# Altium schematic symbol library dcdc_ldo_ref.schlib: 50 symbols
Pins are listed as number, name and electrical type; pins without a type are passive.

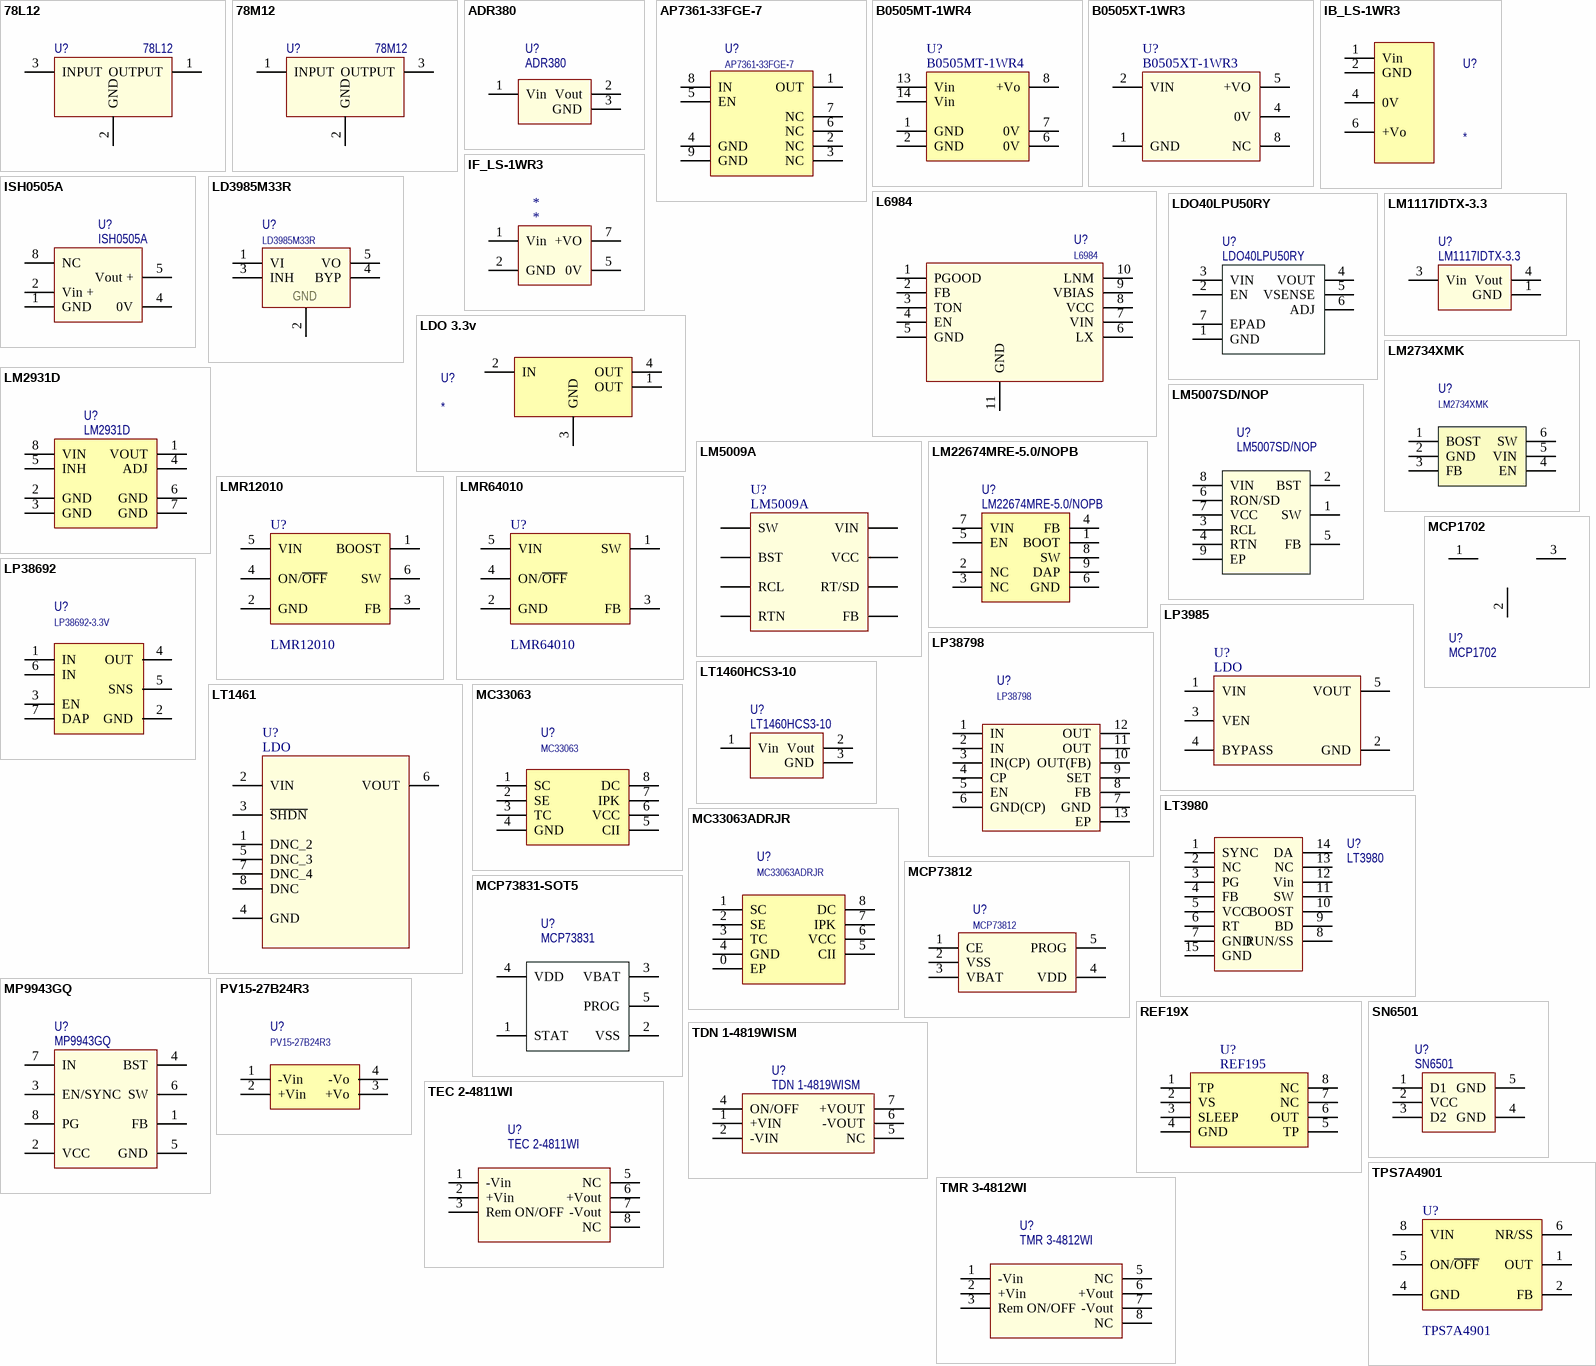
[diagram p0: symbols 78L12 to TPS7A4901]

## 78L12
designator U?
LDO; Part: 78L12; Alternative Part: -
footprint SOT-89
pins: 1 OUTPUT, 2 GND, 3 INPUT

## 78M12
designator U?
LDO; Part: 78M12; Alternative Part: -
footprint KVU-(R-PSFM-G3)
pins: 1 INPUT, 2 GND, 3 OUTPUT

## ADR380
designator U?
REF 2.048V
footprint SOT23
pins: 1 Vin, 2 Vout, 3 GND

## AP7361-33FGE-7
designator U?
Part: AP7361-33FGE-7; JLCPCBPart: C460392
footprint U-DFN3030-8_L3.0-W3.0-P0.65-BL-EP
pins: 1 OUT "Switch Collector", 2 NC "Switch Emitter", 3 NC "Timing capacitor", 4 GND, 5 EN "Comparator Inverting Input", 6 NC, 7 NC "Ipk Sense", 8 IN "Driver Collector", 9 GND "Driver Collector"

## B0505MT-1WR4
designator U?
DC/DC 1W, in 4.5-5.5V, out 5V/200mA; Part: B0505MT-1WR4
footprint B-MT-1WR4 (dc-dc converter 1W)
pins: 1 GND, 2 GND, 6 0V, 7 0V, 8 +Vo, 13 Vin, 14 Vin

## B0505XT-1WR3
designator U?
Isol dc-dc 1-1 5V
footprint SOIC-8-5
pins: 1 GND, 2 VIN, 4 0V, 5 +VO, 8 NC

## IB_LS-1WR3
designator U?
Part: IB2403LS-1WR3
footprint IB_LS-1WR3
pins: 1 Vin, 2 GND, 4 0V, 6 +Vo

## IF_LS-1WR3
designator *
ISO DCDC 1W 24-3..3 Mornsun
footprint IF_LS-1WR3
pins: 1 Vin, 2 GND, 5 0V, 7 +VO

## ISH0505A
designator U?
DC-DC 1500 VDC Isolation
footprint ISH_A1_Package (DC-DC XP power)
pins: 1 GND, 2 Vin +, 4 0V, 5 Vout +, 8 NC

## L6984
designator U?
DC-DC
footprint DFN10(3x3)_M (SON, 10-Leads, Body 3x3mm, Pitch 0.5mm, Thermal Pad 2.45x1.6mm, IPC Low Density)
pins: 1 PGOOD, 2 FB, 3 TON, 4 EN, 5 GND, 6 LX, 7 VIN, 8 VCC, 9 VBIAS, 10 LNM, 11 GND

## LD3985M33R
designator U?
LDO
footprint SOT23-5
pins: 1 VI, 2 GND, 3 INH, 4 BYP, 5 VO

## LDO40LPU50RY
designator U?
No Description Available; Mfr_Name: STMicroelectronics; Copyright: Copyright (C) 2021 Ultra Librarian. All rights reserved.; Manufacturer_Part_Number: LDO40LPU50RY; RefDes: RefDes; Type: DEV
footprint DFN6_3X3_STM
pins: 1 GND, 2 EN, 3 VIN, 4 VOUT, 5 VSENSE, 6 ADJ, 7 EPAD

## LDO 3.3v
designator U?
footprint SOT 223
pins: 1 OUT, 2 IN, 3 GND, 4 OUT

## LM1117IDTX-3.3
designator U?
TI, LM1117-N/LM1117I 800mA Low-Dropout Linear Regulator; Part: LM1117IDTX-3.3
footprint TO-252-3
pins: 1 GND, 3 Vin, 4 Vout

## LM2734XMK
designator U?
DC-DC; Part: LM2734XMK
footprint SOT23-6
pins: 1 BOST, 2 GND, 3 FB, 4 EN, 5 VIN, 6 SW

## LM2931D
designator U?
footprint SO-8_M (SOIC, 8-Leads, Body 4.9x3.9mm, Pitch 1.27mm, IPC Low Density)
pins: 1 VOUT, 2 GND, 3 GND, 4 ADJ, 5 INH, 6 GND, 7 GND, 8 VIN

## LM5007SD/NOP
designator U?
Buck Dc Dc
footprint WSON-8
pins: 1 SW, 2 BST, 3 RCL, 4 RTN, 5 FB, 6 RON/SD, 7 VCC, 8 VIN, 9 EP

## LM5009A
designator U?
footprint VSSOP8 (SOT765)
pins: 1 SW, 2 BST, 3 RCL, 4 RTN, 5 FB, 6 RT/SD, 7 VCC, 8 VIN

## LM22674MRE-5.0/NOPB
designator U?
footprint PSOP 8 TI
pins: 1 BOOT, 2 NC, 3 NC, 4 FB, 5 EN, 6 GND, 7 VIN, 8 SW, 9 DAP

## LMR12010
designator U?
1.6MHz (X) and 3.0MHz (Y) Step-down in SOT23-6
footprint SOT23-6
pins: 1 BOOST, 2 GND, 3 FB, 4 ON/~{OFF}, 5 VIN, 6 SW

## LMR64010
designator U?
1.6MHz Step-up in SOT23-5
footprint SOT23-5
pins: 1 SW, 2 GND, 3 FB, 4 ON/~{OFF}, 5 VIN

## LP3985
designator U?, comment LDO
2.5-5v 150ma
footprint SOT23-5
pins: 1 VIN, 2 GND, 3 VEN, 4 BYPASS, 5 VOUT

## LP38692
designator U?, comment LP38692-3.3V
LP38690, LP38692 1-A LDO CMOS Linear Regulators  Stable with Ceramic Output Capacitors
footprint WSON-6 (TI wson)
pins: 1 IN, 2 GND, 3 EN, 4 OUT, 5 SNS, 6 IN, 7 DAP

## LP38798
designator U?
LDO WITH ULTRA LOW NOISE
footprint WSON-12
pins: 1 IN, 2 IN, 3 IN(CP), 4 CP, 5 EN, 6 GND(CP), 7 GND, 8 FB, 9 SET, 10 OUT(FB), 11 OUT, 12 OUT, 13 EP

## LT1460HCS3-10
designator U?
Voltage References LT1460 - Micropower Precision Series Reference Family; Part: LT1460HCS3-10
footprint SOT23
pins: 1 Vin, 2 Vout, 3 GND

## LT1461
designator U?, comment LDO
Micropower Precision Low Dropout Series Voltage Reference Family. In 20v. Out 2.5V, 3V, 3.3V, 4.096V and 5V; MF: Analog Devices; MP: LT1461AIS8-3.3#PBF; SnapEDA_Link: https://www.snapeda.com/parts/LT1461AIS8-3.3%23PBF/Analog+Devices/view-part/?ref=snap; Package: SOIC -8 Analog Devices; Value: *; Check_prices: https://www.snapeda.com/parts/LT1461AIS8-3.3%23PBF/Analog+Devices/view-part/?ref=eda
footprint SOIC-8 / motorolla case 846-01 style 3
pins: 1 DNC_2, 2 VIN, 3 ~{SHDN}, 4 GND, 5 DNC_3, 6 VOUT, 7 DNC_4, 8 DNC

## LT3980
designator U?
footprint DFN14
pins: 1 SYNC, 2 NC, 3 PG, 4 FB, 5 VCC, 6 RT, 7 GND, 8 RUN/SS, 9 BD, 10 BOOST, 11 SW, 12 Vin, 13 NC, 14 DA, 15 GND

## MC33063
designator U?
Step-up/down IC
footprint SO-8 (SOIC, 8-Leads, Body 4.9x3.9mm, Pitch 1.27mm, IPC Medium Density)
pins: 1 SC "Switch Collector", 2 SE "Switch Emitter", 3 TC "Timing capacitor", 4 GND, 5 CII "Comparator Inverting Input", 6 VCC, 7 IPK "Ipk Sense", 8 DC "Driver Collector"

## MC33063ADRJR
designator U?
Step-up/down IC
footprint SON8/QFN8
pins: 0 EP "Driver Collector", 1 SC "Switch Collector", 2 SE "Switch Emitter", 3 TC "Timing capacitor", 4 GND, 5 CII "Comparator Inverting Input", 6 VCC, 7 IPK "Ipk Sense", 8 DC "Driver Collector"

## MCP1702
designator U?
LDO
footprint SOT23
pins: 1, 2, 3

## MCP73812
designator U?
footprint SOT23-5
pins: 1 CE, 2 VSS, 3 VBAT, 4 VDD, 5 PROG

## MCP73831-SOT5
designator U?, comment MCP73831
MCP73831-SOT5
footprint SOT23-5
pins: 1 STAT, 2 VSS, 3 VBAT, 4 VDD, 5 PROG

## MP9943GQ
designator U?
Step-up/down IC; Part: *; Alternative Part: *
footprint SON65P300X300X100-8N
pins: 1 FB "Switch Collector", 2 VCC "Switch Emitter", 3 EN/SYNC "Timing capacitor", 4 BST, 5 GND "Comparator Inverting Input", 6 SW, 7 IN "Ipk Sense", 8 PG "Driver Collector"

## PV15-27B24R3
designator U?
DC-DC 100-1000/24; link: https://www.mornsun-power.com/index/sitesearch/partlink/keyword/PV15-27B24R3.html
footprint PV15-27B24R3 (DC-DC thr)
pins: 1 -Vin, 2 +Vin, 3 +Vo, 4 -Vo

## REF19X
designator U?, comment REF195
footprint TSOP8 (TSOP, 8-Leads, Body 3,00x4,40mm, Pitch 0,65mm, Thermal Pad 2,55.2x3,55.2mm, IPC Medium Density)
pins: 1 TP, 2 VS, 3 SLEEP, 4 GND, 5 TP, 6 OUT, 7 NC, 8 NC

## SN6501
designator U?
Transformer Driver for Isolated Power Supplies
footprint SOT23-5
pins: 1 D1, 2 VCC, 3 D2, 4 GND, 5 GND

## TDN 1-4819WISM
designator U?
footprint TRACO SMD
pins: 1 +VIN, 2 -VIN, 4 ON/OFF, 5 NC, 6 -VOUT, 7 +VOUT

## TEC 2-4811WI
designator U?
footprint SIP-8
pins: 1 -Vin, 2 +Vin, 3 Rem ON/OFF, 5 NC, 6 +Vout, 7 -Vout, 8 NC

## TMR 3-4812WI
designator U?
footprint SIP-8
pins: 1 -Vin, 2 +Vin, 3 Rem ON/OFF, 5 NC, 6 +Vout, 7 -Vout, 8 NC

## TPS7A4901
designator U?
Ultra low noise linear power supply
footprint MSOP-8
pins: 1 OUT, 2 FB, 4 GND, 5 ON/~{OFF}, 6 NR/SS "Noise reduction pin", 8 VIN

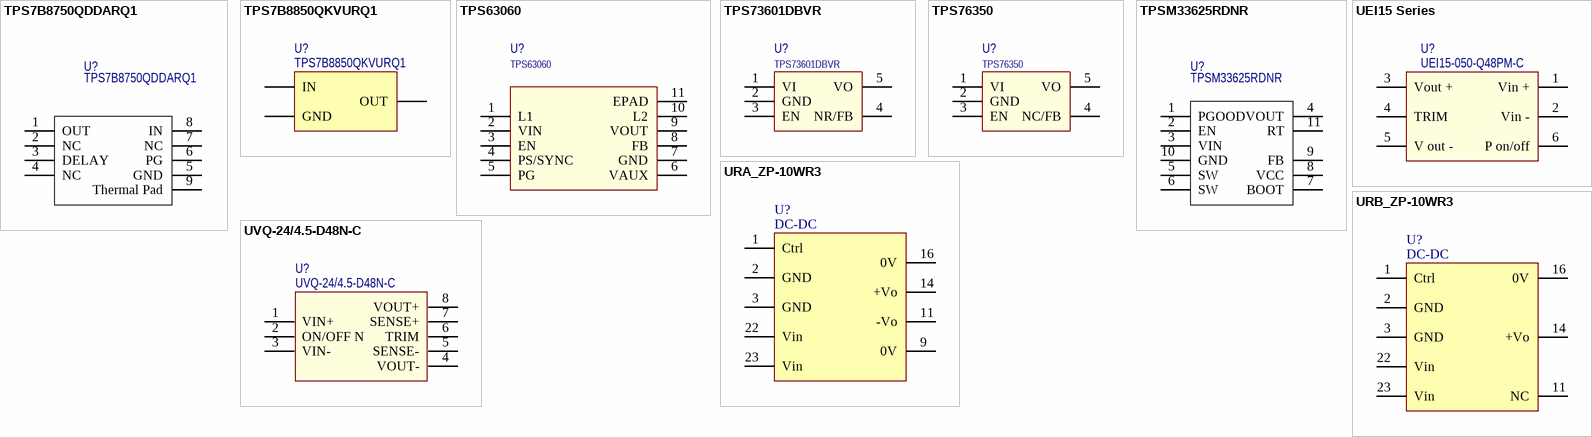
[diagram p1: symbols TPS7B8750QDDARQ1 to UVQ-24/4.5-D48N-C]

## TPS7B8750QDDARQ1
designator U?
footprint FP-DDA0008J-MFG
pins: 1 OUT, 2 NC, 3 DELAY, 4 NC, 5 GND, 6 PG, 7 NC, 8 IN, 9 Thermal Pad

## TPS7B8850QKVURQ1
designator U?
5V
footprint TO-252-3
pins: 1 IN, 3 GND, 4 OUT

## TPS63060
designator U?
buck/boost pwer IC
footprint WSON-10 (wson10)
pins: 1 L1, 2 VIN, 3 EN, 4 PS/SYNC, 5 PG, 6 VAUX, 7 GND, 8 FB, 9 VOUT, 10 L2, 11 EPAD

## TPS73601DBVR
designator U?
ADJ LDO
footprint SOT23-5
pins: 1 VI, 2 GND, 3 EN, 4 NR/FB, 5 VO

## TPS76350
designator U?
LDO
footprint SOT23-5
pins: 1 VI, 2 GND, 3 EN, 4 NC/FB, 5 VO

## TPSM33625RDNR
designator U?
Non ISO DCDC; Part: TPSM33625RDNR; JLCPCBPart: C7073593
footprint CONV_TLVM23615RDNR
pins: 1 PGOOD, 2 EN, 3 VIN, 4 VOUT, 5 SW, 6 SW, 7 BOOT, 8 VCC, 9 FB, 10 GND, 11 RT

## UEI15 Series
designator U?, comment UEI15-050-Q48PM-C
Isolated Wide Input Range 15-Watt DC/DC Converters
footprint UEI15 Series DC-DC
pins: 1 Vin +, 2 Vin -, 3 Vout +, 4 TRIM, 5 V out -, 6 P on/off

## URA_ZP-10WR3
designator U?, comment DC-DC
10W isolated DC-DC converter in DIP package / Ultra-wide input and regulated dual/single output
footprint URA_ZP-10WR3 (dc-dc converter)
pins: 1 Ctrl, 2 GND, 3 GND, 9 0V, 11 -Vo, 14 +Vo, 16 0V, 22 Vin, 23 Vin

## URB_ZP-10WR3
designator U?, comment DC-DC
10W isolated DC-DC converter in DIP package / Ultra-wide input and regulated dual/single output
footprint URB_ZP-10WR3 (dc-dc converter)
pins: 1 Ctrl, 2 GND, 3 GND, 11 NC, 14 +Vo, 16 0V, 22 Vin, 23 Vin

## UVQ-24/4.5-D48N-C
designator U?
footprint UVQ-24/4.5-D48N-C
pins: 1 VIN+, 2 ON/OFF N, 3 VIN-, 4 VOUT-, 5 SENSE-, 6 TRIM, 7 SENSE+, 8 VOUT+